# Altium footprint library PCB - JUMPER - PLS-2R.PcbLib: 1 footprints
Each footprint in its own frame and in the unit in brackets; x right, y up, seen from the top. Pads: shape width x height; smd on the part's side, far side on the other; paste and mask are expansions set on the pad; w line width, h text height; cw(c..) or ccw(c..) is an arc to the next point about the centre after c.
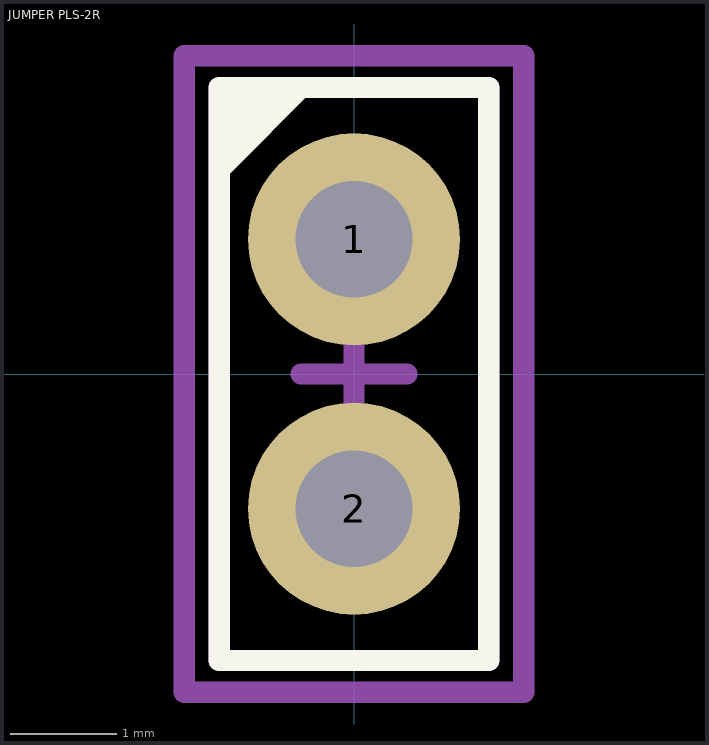
[diagram p0: the footprint, top view; thin cyan lines are the x and y axes]

## JUMPER PLS-2R [mm] "2.54mm 2 pin male"
height 6
pads (2):
  round 2 hole 1.1: 1(0,1.27) 2(0,-1.27)
Top Overlay:
  region: -1.23,2.73 -1.23,1.83 -0.33,2.73
  lines w0.2: -1.27,-2.7 1.27,-2.7 1.27,2.7 -1.27,2.7 -1.27,-2.7
9:
  lines w0.2: -0.5,0 0.5,0 ; 0,-0.5 0,0.5
Top Assembly:
  lines w0.2: -1.27,-2.7 1.27,-2.7 1.27,2.7 -1.27,2.7 -1.27,-2.7
Top Courtyard:
  lines w0.2: -1.6,-3 1.6,-3 1.6,3 -1.6,3 -1.6,-3
3D body "Jumper.step": height 7.2, standoff 4.8, extent -7.6,-2.7 -1.6,2.5
3D body "DS1022_black_02p_100mil_TypeU_rev1.0.STEP": height 6.07, standoff -3, extent -7.25,-2.54 1.25,2.54